# EAGLE library part PIC16F690 (library radish)
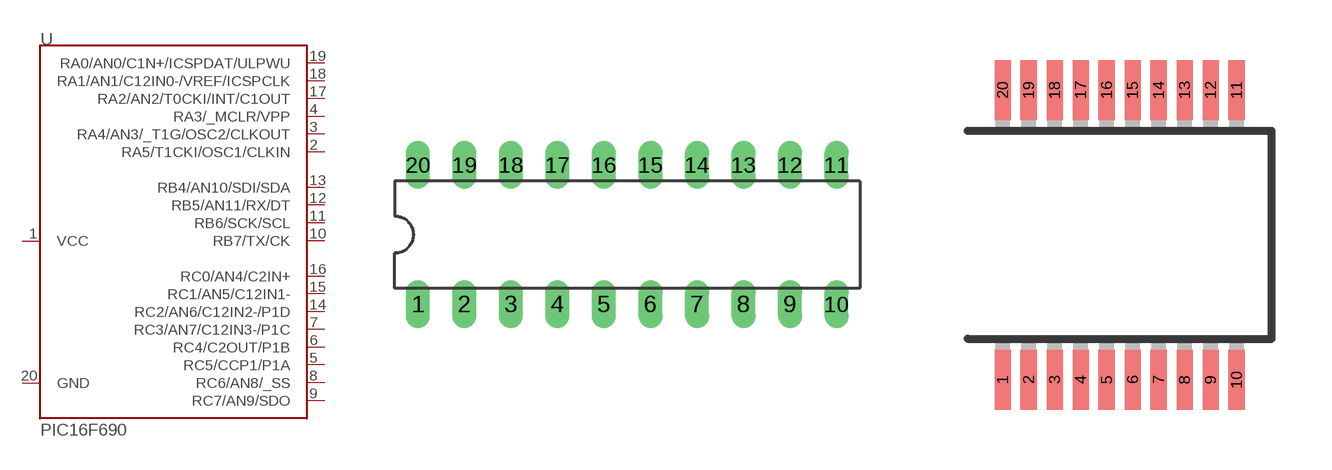
[diagram p0: symbol with the pads of DIL20; footprints DIL20, SSOP20]

Designator prefix U

## PIC16F690PDIP  [DIL20]
1  VCC  in
2  RA5/T1CKI/OSC1/CLKIN
3  RA4/AN3/_T1G/OSC2/CLKOUT
4  RA3/_MCLR/VPP
5  RC5/CCP1/P1A
6  RC4/C2OUT/P1B
7  RC3/AN7/C12IN3-/P1C
8  RC6/AN8/_SS
9  RC7/AN9/SDO
10  RB7/TX/CK
11  RB6/SCK/SCL
12  RB5/AN11/RX/DT
13  RB4/AN10/SDI/SDA
14  RC2/AN6/C12IN2-/P1D
15  RC1/AN5/C12IN1-
16  RC0/AN4/C2IN+
17  RA2/AN2/T0CKI/INT/C1OUT
18  RA1/AN1/C12IN0-/VREF/ICSPCLK
19  RA0/AN0/C1N+/ICSPDAT/ULPWU
20  GND  pwr

## PIC16F690SSOP  [SSOP20]
Pads as for DIL20

## PIC16F690SOIC  [SOIC20S]
Pads as for DIL20

## Footprint DIL20 (pad centres in mm)
Dual In Line Package
drill 0.813 long: 1 -11.43,-3.81; 2 -8.89,-3.81; 3 -6.35,-3.81; 4 -3.81,-3.81; 5 -1.27,-3.81; 6 1.27,-3.81; 7 3.81,-3.81; 8 6.35,-3.81; 9 8.89,-3.81; 10 11.43,-3.81; 11 11.43,3.81; 12 8.89,3.81; 13 6.35,3.81; 14 3.81,3.81; 15 1.27,3.81; 16 -1.27,3.81; 17 -3.81,3.81; 18 -6.35,3.81; 19 -8.89,3.81; 20 -11.43,3.81

## Footprint SSOP20 (pad centres in mm)
Shrink Small Outline Package package type SS
smd 0.4 x 1.5: 1 -2.925,-3.625; 2 -2.275,-3.625; 3 -1.625,-3.625; 4 -0.975,-3.625; 5 -0.325,-3.625; 6 0.325,-3.625; 7 0.975,-3.625; 8 1.625,-3.625; 9 2.275,-3.625; 10 2.925,-3.625; 11 2.925,3.625; 12 2.275,3.625; 13 1.625,3.625; 14 0.975,3.625; 15 0.325,3.625; 16 -0.325,3.625; 17 -0.975,3.625; 18 -1.625,3.625; 19 -2.275,3.625; 20 -2.925,3.625

## Footprint SOIC20S (pad centres in mm)
Wide Plastic Gull Wing Small Outline Package
smd 0.6 x 1.5: 1 -5.715,-5; 2 -4.445,-5; 3 -3.175,-5; 4 -1.905,-5; 5 -0.635,-5; 6 0.635,-5; 7 1.905,-5; 8 3.175,-5; 9 4.445,-5; 10 5.715,-5; 11 5.715,5; 12 4.445,5; 13 3.175,5; 14 1.905,5; 15 0.635,5; 16 -0.635,5; 17 -1.905,5; 18 -3.175,5; 19 -4.445,5; 20 -5.715,5